# Altium footprint library Interface.PcbLib: 6 footprints
Each footprint in its own frame and in the unit in brackets; x right, y up, seen from the top. Pads: shape width x height; smd on the part's side, far side on the other; paste and mask are expansions set on the pad; w line width, h text height; cw(c..) or ccw(c..) is an arc to the next point about the centre after c.
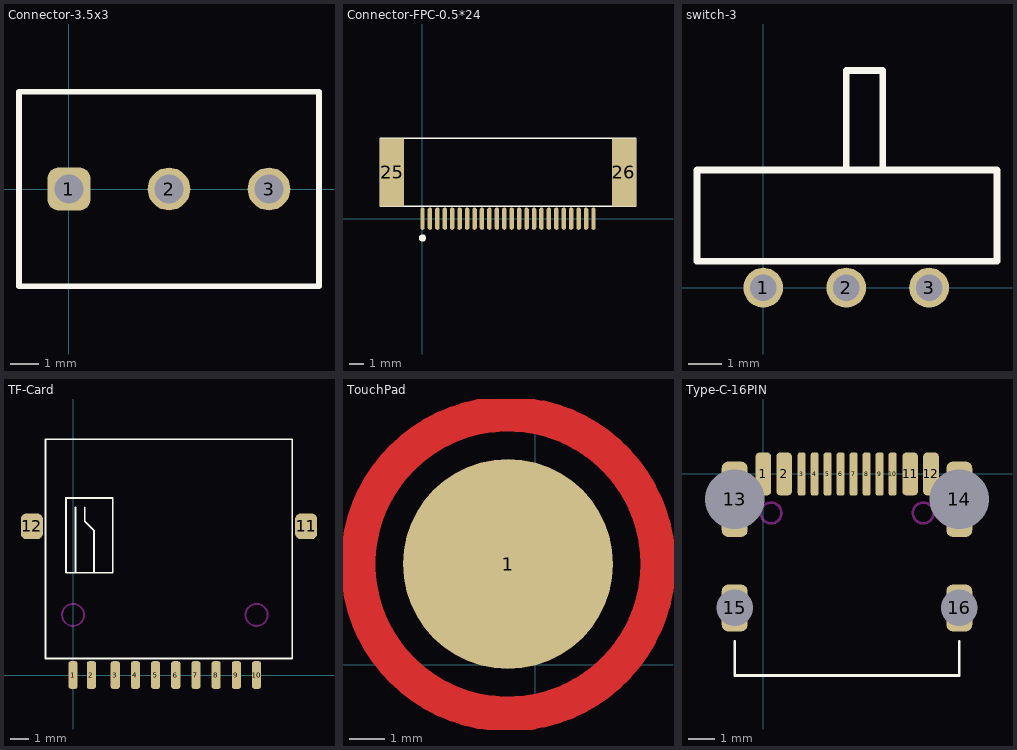
[diagram p0: the footprints below, top view; thin cyan lines are the x and y axes]

## Connector-3.5x3 [mm]
pads (3):
  rrect50% 1.5x1.5 hole 1: 1(0,0)
  round 1.5 hole 1: 2(3.5,0) 3(7,0)
Top Overlay:
  lines w0.2: -1.75,-3.4 8.75,-3.4 8.75,0 8.75,3.4 -1.75,3.4 -1.75,0 -1.75,-3.4

## Connector-FPC-0.5*24 [mm]
pads (26):
  oval 0.3x1.5 smd: 1(0,0) 2(0.5,0) 3(1,0) 4(1.5,0) 5(2,0) 6(2.5,0) 7(3,0) 8(3.5,0) 9(4,0) 10(4.5,0) 11(5,0) 12(5.5,0) 13(6,0) 14(6.5,0) 15(7,0) 16(7.5,0) 17(8,0) 18(8.5,0) 19(9,0) 20(9.5,0) 21(10,0) 22(10.5,0) 23(11,0) 24(11.5,0)
  rect 1.6x4.575 smd: 25(-2.05,3.112) 26(13.55,3.112)
Top Overlay:
  circle w0.254: c0,-1.3 r0.112
  lines w0.1: -2.85,0.825 14.35,0.825 14.35,5.4 -2.85,5.4 -2.85,0.825

## switch-3 [mm]
pads (3):
  round 1.2 hole 0.8: 1(0,0) 2(2.5,0) 3(5,0)
Top Overlay:
  lines w0.2: -2,3.5 -2,0.8 7.05,0.8 7.05,3.55 ; -2,3.55 7,3.55 ; 2.5,3.55 2.5,6.55 3.6,6.55 3.6,3.55

## TF-Card [mm] "pin1 pin2 is check pin"
pads (12):
  rrect50% 0.5x1.5 smd: 1(0,0) 2(1,0) 3(2.3,0) 4(3.4,0) 5(4.5,0) 6(5.6,0) 7(6.7,0) 8(7.8,0) 9(8.9,0) 10(10,0)
  rrect50% 1.2x1.4 smd: 11(12.705,8.1) 12(-2.245,8.1)
Top Overlay:
  lines w0.1: 0.133,5.576 0.133,9.132 ; 0.641,9.132 0.641,8.37 1.149,7.862 1.149,5.576 ; -1.5,0.9 11.95,0.9 11.95,12.85 -1.5,12.85 -1.5,0.9 ; -0.375,5.576 -0.375,9.64 2.165,9.64 2.165,5.576 -0.375,5.576
Keep-Out Layer:
  circle w0.1: c10,3.275 r0.6
  circle w0.1: c0,3.275 r0.6

## TouchPad [mm]
pads (1):
  round 6 smd: 1(-0.775,2.875)
Top Layer:
  circle w1: c-0.775,2.875 r4.287

## Type-C-16PIN [mm]
pads (16):
  rrect50% 0.6x1.65 smd: 1(0,0) 2(0.8,0) 11(5.65,0) 12(6.45,0)
  rrect50% 0.3x1.65 smd: 3(1.475,-0.005) 4(1.975,-0.005) 5(2.475,-0.005) 6(2.975,-0.005) 7(3.475,-0.005) 8(3.975,-0.005) 9(4.475,-0.005) 10(4.975,-0.005)
  rrect50% 1x2.9 hole 2.3 square: 13(-1.1,-0.975) 14(7.54,-0.975)
  rrect50% 1x1.8 hole 1.4 square: 15(-1.1,-5.155) 16(7.54,-5.155)
Top Overlay:
  lines w0.1: -1.1,-6.434 -1.1,-7.755 7.54,-7.755 7.54,-6.43
Keep-Out Layer:
  circle w0.1: c0.3,-1.505 r0.4
  circle w0.1: c6.15,-1.505 r0.4